# Altium footprint library PCB - LEADLESS - DFN - ONSEMI WDFN6 2X2 511BR.PCBLIB: 1 footprints
Each footprint in its own frame and in the unit in brackets; x right, y up, seen from the top. Pads: shape width x height; smd on the part's side, far side on the other; paste and mask are expansions set on the pad; w line width, h text height; cw(c..) or ccw(c..) is an arc to the next point about the centre after c.
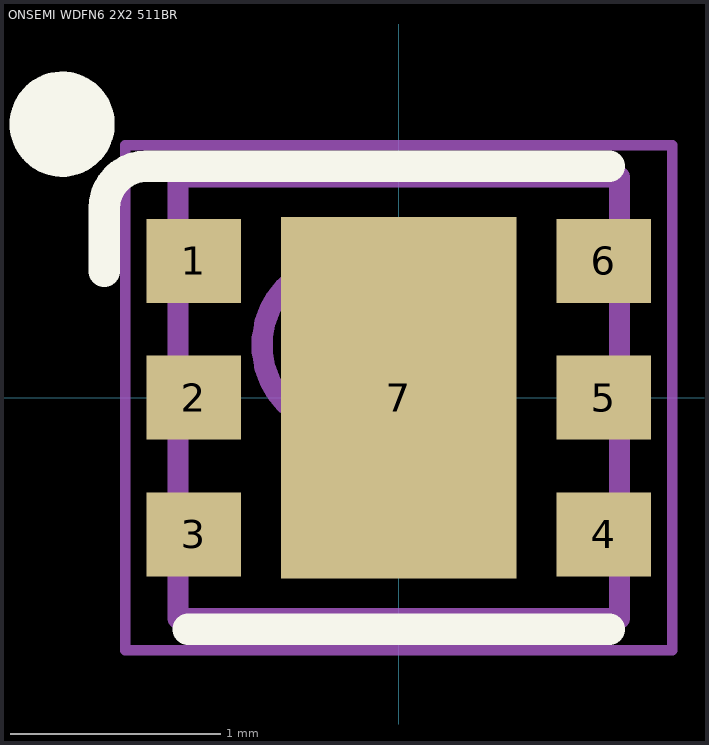
[diagram p0: the footprint, top view; thin cyan lines are the x and y axes]

## ONSEMI WDFN6 2X2 511BR [mm] "WDFN, 6-Leads, Body 2.00x2.00mm, Pitch 0.65mm, Thermal Pad 1.12x1.72mm, IPC Medium Density"
height 0.8
pads (7):
  rect 0.45x0.4 smd: 1(-0.975,0.65) 2(-0.975,0) 3(-0.975,-0.65) 4(0.975,-0.65) 5(0.975,0) 6(0.975,0.65)
  rect 1.12x1.72 smd: 7(0,0)
Top Overlay:
  circle w0.25: c-1.6,1.3 r0.125
  lines w0.15: -1.4,0.6 -1.4,0.9 cw(c-1.2,0.9) -1.2,1.1 1,1.1 ; -1,-1.1 1,-1.1
Mechanical 13:
  circle w0.1: c-0.25,0.25 r0.4
  lines w0.1: -1.05,-1.05 -1.05,1.05 1.05,1.05 1.05,-1.05 -1.05,-1.05
Mechanical 15:
  lines w0.05: -1.3,-1.2 -1.3,1.2 1.3,1.2 1.3,-1.2 -1.3,-1.2
  lines w0.1: -0.5,0 0.5,0 ; 0,-0.5 0,0.5
3D body "ONSEMI WDFN6 2X2 511BR.step": height 0.8, standoff 0, extent -1.07,-1.05 1.07,1.05